# Altium schematic symbol library AMC1311BDWVR.SchLib: 1 symbol
Pins are listed as number, name and electrical type; pins without a type are passive.

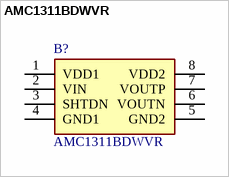
[diagram p0: symbol AMC1311BDWVR]

## AMC1311BDWVR
designator B?
Precision Reinforced Isolated Amplifier With High CMTI for Current Sensing; Manufacturer_Name: Texas Instruments; Geometry.Height: 2.8mm; Mouser Part Number: 595-AMC1311BDWVR; Mouser Price/Stock: https://www.mouser.co.uk/ProductDetail/Texas-Instruments/AMC1311BDWVR?qs=W0yvOO0ixfFQekR98E4CkQ%3D%3D; Manufacturer_Part_Number: AMC1311BDWVR; Datasheet Link: http://www.ti.com/lit/gpn/amc1311
footprint SOIC127P1150X280-8N
pins: 1 VDD1, 2 VIN, 3 SHTDN, 4 GND1, 5 GND2, 6 VOUTN, 7 VOUTP, 8 VDD2